# Altium footprint library CN 20239612.PcbLib: 1 footprints
Each footprint in its own frame and in the unit in brackets; x right, y up, seen from the top. Pads: shape width x height; smd on the part's side, far side on the other; paste and mask are expansions set on the pad; w line width, h text height; cw(c..) or ccw(c..) is an arc to the next point about the centre after c.
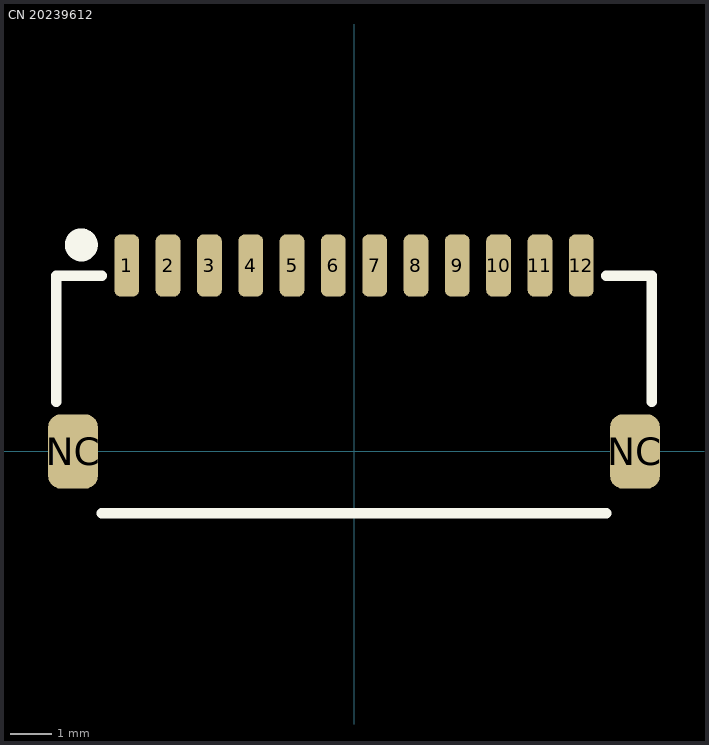
[diagram p0: the footprint, top view; thin cyan lines are the x and y axes]

## CN 20239612 [mm] "12 Circuit SMD Right Angle PicoClasp"
pads (14):
  rrect50% 0.6x1.5 smd: 1(-5.5,4.5) 2(-4.5,4.5) 3(-3.5,4.5) 4(-2.5,4.5) 5(-1.5,4.5) 6(-0.5,4.5) 7(0.5,4.5) 8(1.5,4.5) 9(2.5,4.5) 10(3.5,4.5) 11(4.5,4.5) 12(5.5,4.5)
  rrect50% 1.2x1.8 smd: NC(-6.8,0) NC(6.8,0)
Top Overlay:
  circle w0.5: c-6.6,5 r0.15
  lines w0.254: -7.2,1.2 -7.2,4.25 -6.1,4.25 ; -6.1,-1.5 6.1,-1.5 ; 6.1,4.25 7.21,4.25 7.21,1.2
3D body "2023961207.stp": height 4.7, standoff 0, extent -7,-1.275 7,4.625